# Altium footprint library ORH-B36G.PcbLib: 1 footprints
Each footprint in its own frame and in the unit in brackets; x right, y up, seen from the top. Pads: shape width x height; smd on the part's side, far side on the other; paste and mask are expansions set on the pad; w line width, h text height; cw(c..) or ccw(c..) is an arc to the next point about the centre after c.
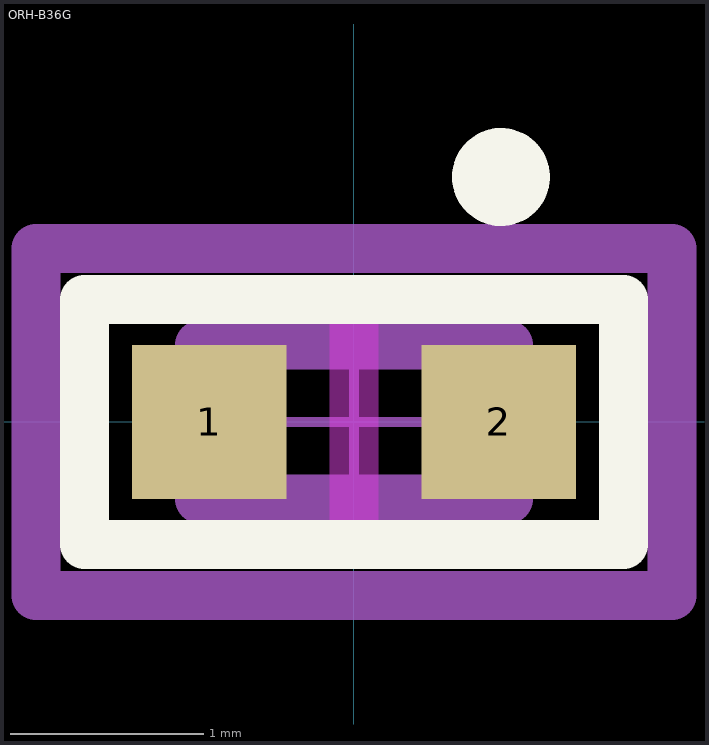
[diagram p0: the footprint, top view; thin cyan lines are the x and y axes]

## ORH-B36G [mm] "-25℃~+80℃ 120mW 120° 2.6V~3.1V 28mcd 2mA 458nm~475nm 460nm Blue Discrete Diode Water Clear 0603 LED Indication - Discrete ROHS"
pads (2):
  rect 0.8x0.8 smd: 1(-0.75,0) 2(0.75,0)
Top Layer keep-out:
  region: -0.127,0.508 0.127,0.508 0.127,-0.508 -0.127,-0.508
Top Overlay:
  circle w0.254: c0.762,1.27 r0.127
  lines w0.254: -1.397,-0.635 1.397,-0.635 1.397,0.635 -1.397,0.635 -1.397,-0.635
Top Assembly:
  lines w0.254: -0.8,-0.4 0.8,-0.4 0.8,0.4 -0.8,0.4 -0.8,-0.4
  text ".Designator" at 0,0.286 h1.52
Top Courtyard:
  lines w0.254: -1.65,-0.9 1.65,-0.9 1.65,0.9 -1.65,0.9 -1.65,-0.9
Top Component Center (Mech16):
  lines w0.051: -0.508,0 0.508,0 ; 0,-0.508 0,0.508